# Altium schematic symbol library DOCK_ESP32_v1.0.SCHLIB: 93 symbols (part 1 of 2)
Pins are listed as number, name and electrical type; pins without a type are passive.

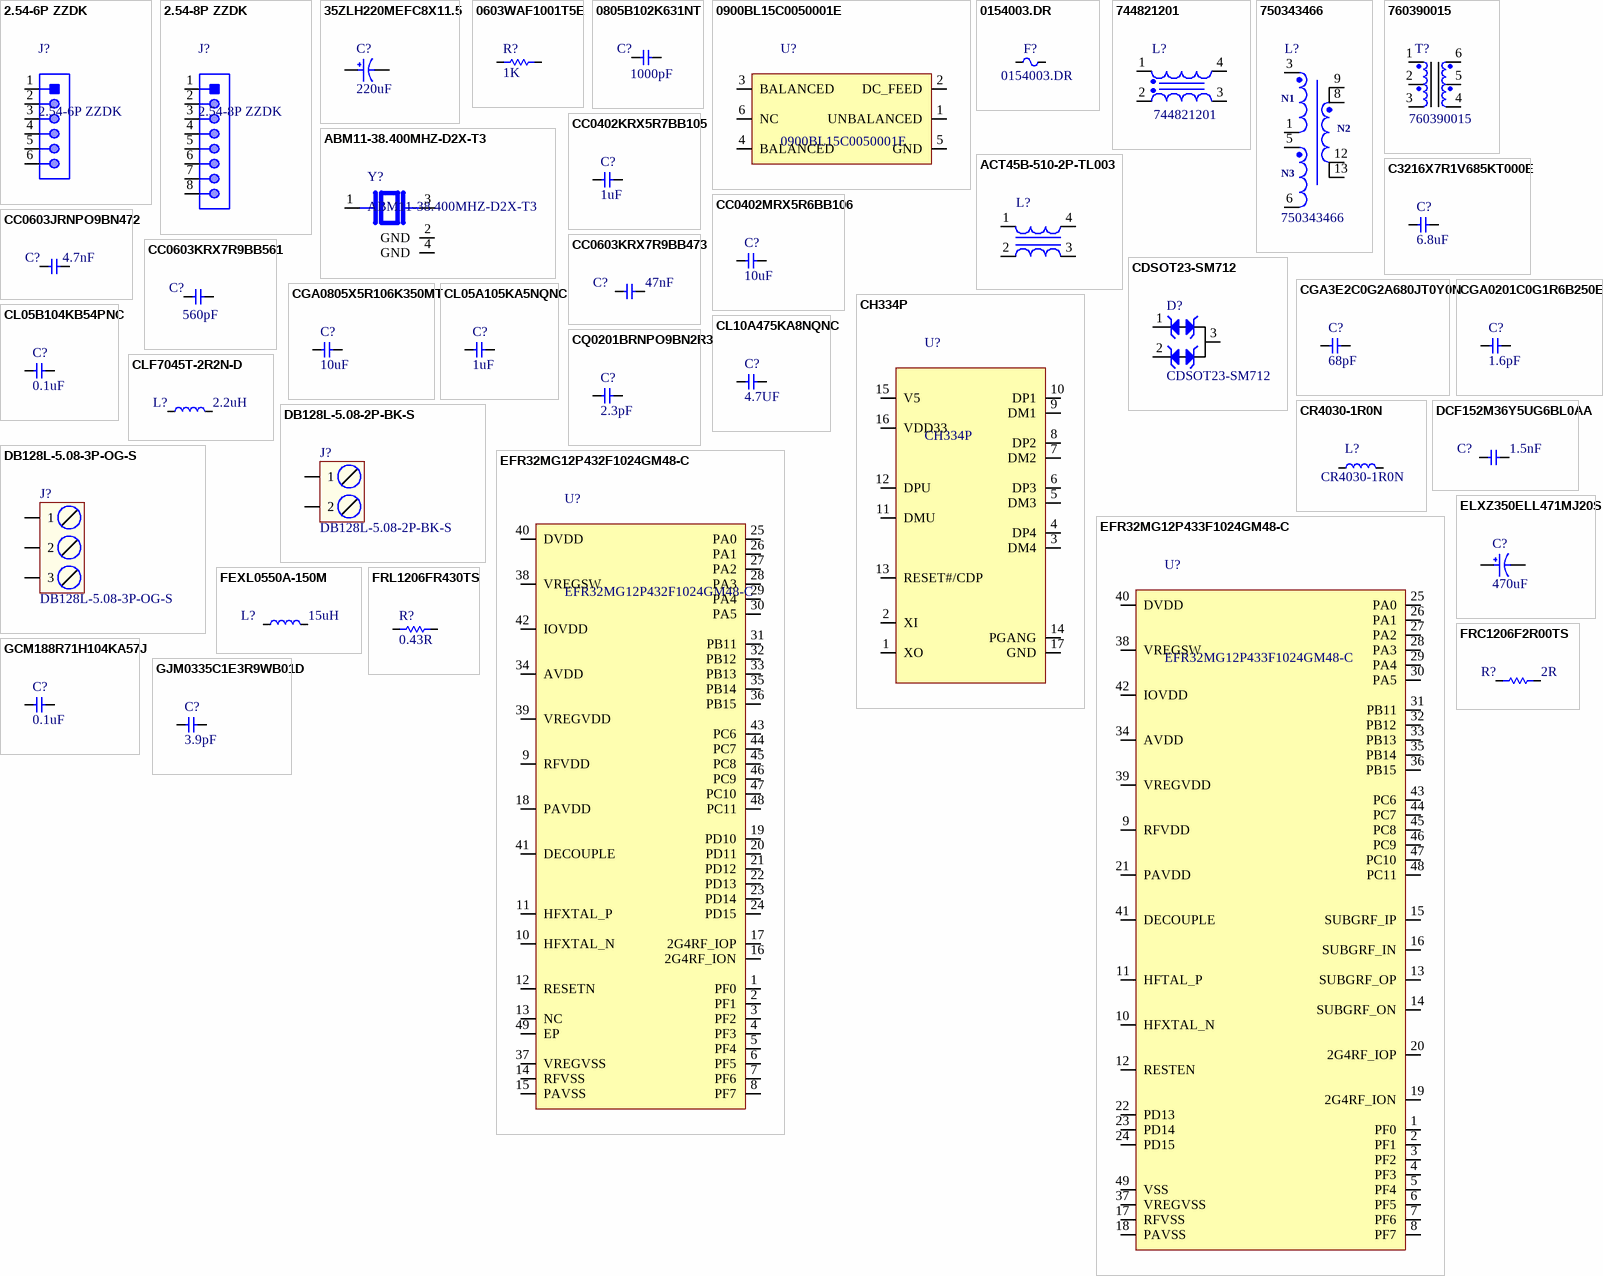
[diagram p0: symbols 2.54-6P ZZDK to GJM0335C1E3R9WB01D]

## 2.54-6P ZZDK
designator J?
CONN HEADER TH 6POS 2.5mm; Manufacturer: SHOU HAN; Manufacturer Part Number: 2.54-6P ZZDK; LCSC Part Number: C18185653
footprint 2.54-2P ZZDK
footprint 2.54-8P ZZDK
footprint 2.54-6P ZZDK
pins: 1, 2, 3, 4, 5, 6

## 2.54-8P ZZDK
designator J?
1x8P 8P XH 1 2.5mm Tin 2 -25℃~+85℃ Brass 3A Direct Insert Plugin,P=2.5mm Wire To Board Connector ROHS; Manufacturer: SHOU HAN; Manufacturer Part Number: 2.54-8P ZZDK; LCSC Part Number: C18185655
footprint 2.54-2P ZZDK
footprint 2.54-8P ZZDK
pins: 1, 2, 3, 4, 5, 6, 7, 8

## 35ZLH220MEFC8X11.5
designator C?, comment 220uF
220uF 35V 472.5mA@120Hz ±20% Plugin,D8xL11.5mm Aluminum Electrolytic Capacitors - Leaded ROHS; Manufacturer: Rubycon; Manufacturer Part Number: 35ZLH220MEFC8X11.5; Package: Plugin,D8xL11.5mm; LCSC Part Number: C107639; Item Type: Capacitor; ComponentLink1Description: LCSC; ComponentLink1URL: https://www.lcsc.com/product-detail/Aluminum-Electrolytic-Capacitors-Leaded_Rubycon-35ZLH220MEFC8X11-5_C107639.html?s_z=n_EKZE350ELL221MJC5S
footprint 35ZLH220MEFC8X11.5
pins: 1, 2

## 0603WAF1001T5E
designator R?, comment 1K
0.1W Thick Film Resistors 75V ±100ppm/℃ ±1% 1kΩ 0603 Chip Resistor - Surface Mount ROHS; Manufacturer: UNI-ROYAL(Uniroyal Elec); Manufacturer Part Number: 0603WAF1001T5E; Package: 0603; LCSC Part Number: C21190; Item Type: Resistor; ComponentLink1Description: LCSC; ComponentLink1URL: https://www.lcsc.com/product-detail/Chip-Resistor-Surface-Mount_UNI-ROYAL-Uniroyal-Elec-0603WAF1001T5E_C21190.html?s_z=n_CRCW06031K00JNEA
footprint Res-0603
pins: 1, 2

## 0805B102K631NT
designator C?, comment 1000pF
630V 1000pF X7R ±10% 0805 Multilayer Ceramic Capacitors MLCC - SMD/SMT ROHS; Manufacturer: FH (Guangdong Fenghua Advanced Tech); Manufacturer Part Number: 0805B102K631NT; Package: 0805; LCSC Part Number: C20617885; Item Type: Capacitor; ComponentLink1Description: LCSC; ComponentLink1URL: https://www.lcsc.com/product-detail/Multilayer-Ceramic-Capacitors-MLCC-SMD-SMT_FH-Guangdong-Fenghua-Advanced-Tech-0805B102K631NT_C20617885.html?s_z=n_%2520C0805C102JBRACTU
footprint Cap-0805 (SMD 0805)
pins: 1, 2

## 0900BL15C0050001E
designator U?
Signal Conditioning BALUN GSM/DCS/PCS/CDMA 900MHz,-40 to +85,0805 (2012 Metric); Manufacturer_Name: JOHANSON TECHNOLOGY; Manufacturer_Part_Number: 0900BL15C0050001E
footprint 0900BL15C0050001E
footprint 0900BL15C0050001E
pins: 1 UNBALANCED, 2 DC_FEED, 3 BALANCED, 4 BALANCED, 5 GND, 6 NC

## 0154003.DR
designator F?
FUSE BRD MNT 3A 125VAC/VDC 2SMD; Manufacturer: Littelfuse; Item Type: Fuses; Value: 22.7mR; Supplier: Digikey; LCSC Part Number: C206912; Manufacturer Part Number: 0154003.DR; RoHS: Yes; Stock: 5902; Pricing: 1=2.71, 5=2.246, 10=2.073, 50=1.7196, 100=1.5862, 250=1.425, 500=1.3135 (USD); Lead Free: 5697LeadFree; RoHS Compliant: 5897YesNo; Flammability Rating: 5813Flammability; ComponentLink1URL: https://datasheet.ciiva.com/29697/1708924-29697492.pdf?src-supplier=Jameco; ComponentLink1Description: https://datasheet.ciiva.com/29697/1708924-29697492.pdf?src-supplier=Jameco; ComponentLink2URL: https://datasheet.ciiva.com/14102/aa154xxx-data-e-14102960.pdf?src-supplier=Distrelec; ComponentLink2Description: https://datasheet.ciiva.com/14102/aa154xxx-data-e-14102960.pdf?src-supplier=Distrelec; ComponentLink3URL: https://datasheet.ciiva.com/28499/88932-28499727.pdf?src-supplier=Element14; ComponentLink3Description: https://datasheet.ciiva.com/28499/88932-28499727.pdf?src-supplier=Element14; ComponentLink4URL: https://datasheet.ciiva.com/1268/154-1268659.pdf?src-supplier=Element14; ComponentLink4Description: https://datasheet.ciiva.com/1268/154-1268659.pdf?src-supplier=Element14
footprint 0154003.DR
pins: 1, 2

## 744821201
designator L?
CMC 1MH 2A 2LN TH; Manufacturer: Wurth Electronics; Item Type: Fixed Inductors; Supplier: Mouser; Supplier Part Number: 710-744821201; Manufacturer Part Number: 744821201; RoHS: Yes; Stock: 341; Pricing: 1=3.6, 10=3.33, 50=2.98, 100=2.62, 1000=2.34, 10000=2.34 (USD); ComponentLink1URL: https://datasheet.ciiva.com/4952/744821201-87450-4952378.pdf?src-supplier=Mouser; ComponentLink1Description: https://datasheet.ciiva.com/4952/744821201-87450-4952378.pdf?src-supplier=Mouser; ComponentLink2URL: https://datasheet.ciiva.com/1008/744821201-1008592.pdf?src-supplier=Digikey; ComponentLink2Description: https://datasheet.ciiva.com/1008/744821201-1008592.pdf?src-supplier=Digikey; ComponentLink3URL: https://datasheet.ciiva.com/11796/0900766b804ac268-11796620.pdf?src-supplier=Rs; ComponentLink3Description: https://datasheet.ciiva.com/11796/0900766b804ac268-11796620.pdf?src-supplier=Rs; ComponentLink4URL: https://datasheet.ciiva.com/7211/70377-7211245.pdf?src-supplier=Newark; ComponentLink4Description: https://datasheet.ciiva.com/7211/70377-7211245.pdf?src-supplier=Newark; ComponentLink5URL: https://datasheet.ciiva.com/7892/1736513-7892972.pdf?src-supplier=Element14; ComponentLink5Description: https://datasheet.ciiva.com/7892/1736513-7892972.pdf?src-supplier=Element14; ComponentLink6URL: https://datasheet.ciiva.com/14124/to744821201-data-de-14124987.pdf?src-supplier=Distrelec; ComponentLink6Description: https://datasheet.ciiva.com/14124/to744821201-data-de-14124987.pdf?src-supplier=Distrelec
footprint 744821201
pins: 1, 2, 3, 4

## 750343466
designator L?
XFMR FLYBACK AC/DC CONV 280UH TH; Manufacturer: Wurth Electronics; Item Type: Transformer; Supplier: Digikey; Supplier Part Number: 1297-750343466-ND; Manufacturer Part Number: 750343466; RoHS: Yes; Stock: 112; Pricing: 1=7.36, 10=6.646, 25=6.3768, 70=6.08471, 140=5.89457, 280=5.70964, 490=5.56402, 980=5.38821 (USD); RoHS Compliant: Yes
footprint 750343466
pins: 1, 3, 5, 6, 8, 9, 12, 13
text: N1; N2; N3

## 760390015
designator T?
TRANSFORMER 475UH SMD; Manufacturer: Wurth Electronics; Frequency: 10kHz; Current Rating: 150mA; Isolation Voltage: 2.5kV; Supplier: Rs; Supplier Part Number: 1828986P; Manufacturer Part Number: 760390015; RoHS: Yes; Category: Transformers; Stock: 435; Pricing: 25=1.438, 100=1.36, 250=1.312, 500=1.226 (GBP); Mounting Technology: Surface Mount; Case/Package: SMD/SMT; Min Operating Temperature: -40°C; Max Operating Temperature: 125°C; Package Quantity: 1; Packaging: Tape and Reel; Termination: SMD/SMT; Value: 475uH; Series: WE-PP; Max DC Current: 150mA; Length: 10.05mm; Width: 10.05mm; Height: 4.19mm; Height - Seated (Max): 4.19mm; RoHS Compliant: Yes; ComponentLink1URL: https://datasheet.ciiva.com/12335/760390015-221218-12335392.pdf?src-supplier=Mouser; ComponentLink1Description: https://datasheet.ciiva.com/12335/760390015-221218-12335392.pdf?src-supplier=Mouser; Item Type: TRANSFORMER
footprint 760390015
pins: 1, 2, 3, 4, 5, 6

## ABM11-38.400MHZ-D2X-T3
designator Y?
CRYSTAL, 38.4MHZ, 10PF, SMD, 2MM X 1.6MM; MF: Abracon LLC; Value: ABM11-38.400MHZ-D2X-T3; MP: ABM11-38.400MHZ-D2X-T3
footprint XTAL_ABM11-38.400MHZ-D2X-T3
footprint XTAL_ABM11-38.400MHZ-D2X-T3
pins: 1, 2 GND (power), 3 2, 4 GND (power)

## ACT45B-510-2P-TL003
designator L?  (value not drawn)
CMC 51UH 200MA 2LN 2.8KOHM SMD; Manufacturer: TDK; Impedance: 2.8kR; Voltage Rating (DC): 50V; Number of Lines: 2; Tolerance: 50%; DC Resistance (DCR): 1R; Test Frequency: 10MHz; Insulation Resistance: 10MR; Item Type: Common Mode Filter; Supplier: Arrow Electronics; Supplier Part Number: ACT45B-510-2P-TL003; Manufacturer Part Number: ACT45B-510-2P-TL003; RoHS: Yes; Category: Fixed Inductors; Stock: 390000; Pricing: 2500=0.8915, 5000=0.8612, 10000=0.8526 (USD); Mounting Technology: Surface Mount; Case/Package: 1812; Pins: 4; Case Code (Imperial): 1812; Min Operating Temperature: -40°C; Max Operating Temperature: 150°C; Packaging: Tape and Reel; Value: 51uH; Current Rating: 200mA; Package Quantity: 2000; Voltage Rating: 50V; Max DC Current: 200mA; Termination: SMD/SMT; DC Current: 200mA; Series: ACT; DC Resistance-Max: 1R; Max Current Rating: 200mA; Length: 4.5mm; Width: 3.2mm; Height: 3mm; Depth: 3.4mm; Ratings: AEC-Q200; Radiation Hardening: No; Reach SVHC Compliant: No; Military Standard: Not; RoHS Compliant: Yes; Lead Free: 5697LeadFree; ComponentLink1URL: https://datasheet.ciiva.com/22726/1649098-22726290.pdf?src-supplier=Element14; ComponentLink1Description: https://datasheet.ciiva.com/22726/1649098-22726290.pdf?src-supplier=Element14; ComponentLink2URL: https://datasheet.ciiva.com/1007/e9711-act-1007931.pdf?src-supplier=Digikey; ComponentLink2Description: https://datasheet.ciiva.com/1007/e9711-act-1007931.pdf?src-supplier=Digikey; ComponentLink3URL: https://datasheet.ciiva.com/1007/e9711-act-1007933.pdf?src-supplier=Digikey; ComponentLink3Description: https://datasheet.ciiva.com/1007/e9711-act-1007933.pdf?src-supplier=Digikey; ComponentLink4URL: https://datasheet.ciiva.com/8498/e9711-act-8498633.pdf?src-supplier=Avnet; ComponentLink4Description: https://datasheet.ciiva.com/8498/e9711-act-8498633.pdf?src-supplier=Avnet; ComponentLink5URL: https://datasheet.ciiva.com/7649/1833202-7649183.pdf?src-supplier=Element14; ComponentLink5Description: https://datasheet.ciiva.com/7649/1833202-7649183.pdf?src-supplier=Element14; ComponentLink6URL: https://datasheet.ciiva.com/1007/e9711-act-1007932.pdf?src-supplier=Digikey; ComponentLink6Description: https://datasheet.ciiva.com/1007/e9711-act-1007932.pdf?src-supplier=Digikey; ComponentLink7URL: https://datasheet.ciiva.com/15191/getdatasheetpartid-349822-15191803.pdf?src-supplier=Verical; ComponentLink7Description: https://datasheet.ciiva.com/15191/getdatasheetpartid-349822-15191803.pdf?src-supplier=Verical; LCSC Part Number: C76584
footprint ACT45B-510-2P-TL003
pins: 1, 2, 3, 4

## C3216X7R1V685KT000E
designator C?, comment 6.8uF
CAP CER 6.8UF 35V X7R 1206; Manufacturer: TDK Corporation; Manufacturer Part Number: C3216X7R1V685K160AC; Item Type: Capacitor; Package: 1206; LCSC Part Number: C342646; ComponentLink1Description: LCSC; ComponentLink1URL: https://www.lcsc.com/product-detail/Multilayer-Ceramic-Capacitors-MLCC-SMD-SMT_TDK-C3216X7R1V685KT000E_C342646.html?s_z=n_C2012X5R1V685K125AC
footprint Cap-1206 (SMD 1206)
pins: 1, 2

## CC0402KRX5R7BB105
designator C?, comment 1uF
CAP CER 1UF 16V X5R 0402; Manufacturer: Yageo; Manufacturer Part Number: CC0402KRX5R7BB105; Tolerance: 10%; Item Type: Capacitor; Supplier 1: Digi-Key; Stock 1: 1405667; Pricing 1: 1=0.36, 10=0.252, 100=0.1512, 500=0.1134, 1000=0.09576, 2500=0.09072, 5000=0.08568 (USD); Mount: Surface Mount; Case/Package: 0402; Weight: 2.3E-05oz; Case Code (Imperial): 0402; Case Code (Metric): 1005; Min Operating Temperature: -55°C; Max Operating Temperature: 85°C; Capacitance: 1uF; Dielectric: X5R; Packaging: Tape and Reel; Voltage Rating (DC): 16V; Voltage Rating: 16V; Termination: SMD/SMT; Composition: Ceramic; Length: 1mm; Height: 0.5mm; Width: 0.02inch; Thickness: 0.022inch; Depth: 0.5mm; Radiation Hardening: No; Lead Free: Lead Free; Halogen Free: Halogen Free; ComponentLink1URL: http://www.yageo.com/documents/recent/UPY-GPHC_X5R_4V-to-50V_12.pdf?src-supplier=Avnet+Europe; ComponentLink1Description: http://www.yageo.com/documents/recent/UPY-GPHC_X5R_4V-to-50V_12.pdf?src-supplier=Avnet+Europe; Supplier Part Number 1: 311-1691-6-ND; LCSC Part Number: C325464
footprint Cap-0402
pins: 1, 2

## CC0402MRX5R6BB106
designator C?, comment 10uF
CAP CER 10UF 10V X5R 0402; Manufacturer: Yageo; Manufacturer Part Number: CC0402MRX5R6BB106; Tolerance: 20%; Item Type: Capacitor; Supplier 1: Future Electronics; RoHS: Yes; Category: Ceramic Capacitors; Stock 1: 80000; Pricing 1: 10000=0.02650, 20000=0.02590, 30000=0.02550, 40000=0.02530, 50000=0.02450 (USD); Mount: Surface Mount; Case/Package: 0402; Case Code (Imperial): 0402; Case Code (Metric): 1005; Min Operating Temperature: -55°C; Max Operating Temperature: 85°C; Packaging: Tape and Reel; Capacitance: 10uF; Voltage Rating: 10V; RoHS Compliant: Yes; ComponentLink1URL: http://www.yageo.com/documents/recent/UPY-GPHC_X5R_4V-to-50V_25.pdf?src-supplier=Digi-Key; ComponentLink1Description: http://www.yageo.com/documents/recent/UPY-GPHC_X5R_4V-to-50V_25.pdf?src-supplier=Digi-Key; Supplier Part Number 1: 6097631; LCSC Part Number: C962143
footprint Cap-0402
pins: 1, 2

## CC0603JRNPO9BN472
designator C?, comment 4.7nF
CAP CER 4700PF 50V C0G/NPO 0603; Manufacturer: Yageo; Manufacturer Part Number: CC0603JRNPO9BN472; Item Type: Capacitor; Supplier 1: Digi-Key; RoHS: Yes; Category: Ceramic Capacitors; Stock 1: 31779; Pricing 1: 1=0.48000, 10=0.33000, 50=0.23100, 100=0.19800, 500=0.14854, 1000=0.12543 (USD); RoHS Compliant: Yes; Supplier Part Number 1: 13-CC0603JRNPO9BN472CT-ND; LCSC Part Number: C576818; ComponentLink1Description: LCSC; ComponentLink1URL: https://www.lcsc.com/product-detail/Multilayer-Ceramic-Capacitors-MLCC-SMD-SMT_YAGEO-CC0603JRNPO9BN472_C576818.html
footprint Cap-0603
pins: 1, 2

## CC0603KRX7R9BB473
designator C?, comment 47nF
CAP CER 0.047UF 50V X7R 0603; Manufacturer: Yageo; Manufacturer Part Number: CC0603KRX7R9BB473; Item Type: Capacitors; Material: 4241ConductorMaterial; Supplier: Future Electronics; LCSC Part Number: C107093; RoHS: Yes; Stock: 2716000; Pricing: 4000=0.003, 16000=0.0029, 60000=0.0028, 160000=0.0027, 400000=0.0026 (USD); Lead Free: 5697LeadFree; Halogen Free: 5694HalogenFree; ComponentLink1URL: https://datasheet.ciiva.com/26862/getdatasheetpartid-403593-26862863.pdf?src-supplier=Verical; ComponentLink1Description: https://datasheet.ciiva.com/26862/getdatasheetpartid-403593-26862863.pdf?src-supplier=Verical; ComponentLink2URL: https://datasheet.ciiva.com/11786/0900766b80d84f1d-11786072.pdf?src-supplier=Rs; ComponentLink2Description: https://datasheet.ciiva.com/11786/0900766b80d84f1d-11786072.pdf?src-supplier=Rs; ComponentLink3URL: https://datasheet.ciiva.com/176/mlccorderingcode-176544.pdf?src-supplier=Digikey; ComponentLink3Description: https://datasheet.ciiva.com/176/mlccorderingcode-176544.pdf?src-supplier=Digikey; ComponentLink4URL: https://datasheet.ciiva.com/176/mlccorderingcode-176545.pdf?src-supplier=Digikey; ComponentLink4Description: https://datasheet.ciiva.com/176/mlccorderingcode-176545.pdf?src-supplier=Digikey; ComponentLink5URL: https://datasheet.ciiva.com/176/mlccorderingcode-176546.pdf?src-supplier=Digikey; ComponentLink5Description: https://datasheet.ciiva.com/176/mlccorderingcode-176546.pdf?src-supplier=Digikey; ComponentLink6URL: https://datasheet.ciiva.com/28450/1489800-28450670.pdf?src-supplier=Element14; ComponentLink6Description: https://datasheet.ciiva.com/28450/1489800-28450670.pdf?src-supplier=Element14
footprint Cap-0603
pins: 1, 2

## CC0603KRX7R9BB561
designator C?, comment 560pF
CAP CER 560PF 50V X7R 0603; Manufacturer: Yageo; Manufacturer Part Number: CC0603KRX7R9BB561; Item Type: Capacitors; Material: 4241ConductorMaterial; Insulation Resistance: 100GR; Supplier: Digikey; LCSC Part Number: C107094; RoHS: Yes; Stock: 209062; Pricing: 1=0.1, 10=0.035, 100=0.0204, 1000=0.01285 (USD); Dielectric Material: 4241ConductorMaterial; Voltage Rating (AC): 50V; Lead Free: 5697LeadFree; Halogen Free: 5694HalogenFree; ComponentLink1URL: https://datasheet.ciiva.com/8033/1489800-8033866.pdf?src-supplier=Element14; ComponentLink1Description: https://datasheet.ciiva.com/8033/1489800-8033866.pdf?src-supplier=Element14; ComponentLink2URL: https://datasheet.ciiva.com/144/mlccorderingcode-144466.pdf?src-supplier=Digikey; ComponentLink2Description: https://datasheet.ciiva.com/144/mlccorderingcode-144466.pdf?src-supplier=Digikey; ComponentLink3URL: https://datasheet.ciiva.com/144/mlccorderingcode-144467.pdf?src-supplier=Digikey; ComponentLink3Description: https://datasheet.ciiva.com/144/mlccorderingcode-144467.pdf?src-supplier=Digikey; ComponentLink4URL: https://datasheet.ciiva.com/144/mlccorderingcode-144468.pdf?src-supplier=Digikey; ComponentLink4Description: https://datasheet.ciiva.com/144/mlccorderingcode-144468.pdf?src-supplier=Digikey; ComponentLink5URL: https://datasheet.ciiva.com/11465/upy-gphc-x7r-6-3v-to-50v-8-11465256.pdf?src-supplier=Avnet; ComponentLink5Description: https://datasheet.ciiva.com/11465/upy-gphc-x7r-6-3v-to-50v-8-11465256.pdf?src-supplier=Avnet
footprint Cap-0603
pins: 1, 2

## CDSOT23-SM712
designator D?
TVS DIODE 7V/12V 14V/26V SOT23-3; Manufacturer: Bourns; Direction: Bidirectional; Value: 75pF; Max Surge Current: 30A; Polarity: Bidirectional,Unidirectional; Number of Channels: 2; Breakdown Voltage: 13.3V; Clamping Voltage: 19V; Working Voltage: 12V; Min Breakdown Voltage: 7.5V; Power Line Protection: No; Leakage Current: 20uA; Peak Pulse Current: 17A; Diode Type: ZENER; Max Power Dissipation: 600W; Peak Pulse Power: 400W; ESD Protection: Yes; Test Current: 1mA; Item Type: Surge Protection (TVS/ESD); Supplier: Rs; Supplier Part Number: 7673728P; Manufacturer Part Number: CDSOT23-SM712; RoHS: Yes; Category: TVS Diodes; Stock: 89660; Pricing: 100=0.935, 1500=0.651, 3000=0.565, 6000=0.553 (GBP); Mounting Technology: Surface Mount; Case/Package: SOT-23; Pins: 3; Contact Plating: Tin; Min Operating Temperature: -55°C; Max Operating Temperature: 150°C; Packaging: Tape and Reel; Series: -; Termination: SMD/SMT; Reverse Standoff Voltage: 12V; Number of Elements: 2; Reverse Breakdown Voltage: 13.3V; Number of Bidirectional Channels: 2; Power Dissipation: 400W; Max Reverse Leakage Current: 20uA; Max Breakdown Voltage: 13.3V; Length: 3.04mm; Width: 0.055inch; Height: 1.11mm; Depth: 1.4mm; Radiation Hardening: No; Reach SVHC Compliant: No; RoHS Compliant: Yes; ComponentLink1URL: https://datasheet.ciiva.com/1281/1670933-1281331.pdf?src-supplier=Farnell; ComponentLink1Description: https://datasheet.ciiva.com/1281/1670933-1281331.pdf?src-supplier=Farnell; ComponentLink2URL: https://datasheet.ciiva.com/4510/cdsot23-sm712-25932-4510261.pdf?src-supplier=Mouser; ComponentLink2Description: https://datasheet.ciiva.com/4510/cdsot23-sm712-25932-4510261.pdf?src-supplier=Mouser; ComponentLink3URL: https://datasheet.ciiva.com/11193/cdsot23-sm712-11193846.pdf?src-supplier=Avnet; ComponentLink3Description: https://datasheet.ciiva.com/11193/cdsot23-sm712-11193846.pdf?src-supplier=Avnet; ComponentLink4URL: https://datasheet.ciiva.com/22696/1670933-22696779.pdf?src-supplier=Element14; ComponentLink4Description: https://datasheet.ciiva.com/22696/1670933-22696779.pdf?src-supplier=Element14; ComponentLink5URL: https://datasheet.ciiva.com/26828/getdatasheetpartid-418501-26828522.pdf?src-supplier=Verical; ComponentLink5Description: https://datasheet.ciiva.com/26828/getdatasheetpartid-418501-26828522.pdf?src-supplier=Verical; ComponentLink6URL: https://datasheet.ciiva.com/337/cdsot23-sm712-337451.pdf?src-supplier=Digikey; ComponentLink6Description: https://datasheet.ciiva.com/337/cdsot23-sm712-337451.pdf?src-supplier=Digikey; ComponentLink7URL: https://datasheet.ciiva.com/337/cdsot23-sm712-337452.pdf?src-supplier=Digikey; ComponentLink7Description: https://datasheet.ciiva.com/337/cdsot23-sm712-337452.pdf?src-supplier=Digikey; LCSC Part Number: C404012
footprint SOT-23 (TRANS NPN 40V 0.6A SOT23)
pins: 1 K, 2 K, 3 K

## CGA3E2C0G2A680JT0Y0N
designator C?, comment 68pF
CAP CER 68PF 100V C0G 0603; Manufacturer: CGA3E2C0G2A680J080AA; Manufacturer Part Number: CGA3E2C0G2A680JT0Y0N; Item Type: Capacitor; Package: 0603; LCSC Part Number: C694224
footprint Cap-0603
pins: 1, 2

## CGA0201C0G1R6B250ET
designator C?, comment 1.6pF
1.6pF 25V Ceramic Capacitor C0G 0201; Manufacturer: HRE; Manufacturer Part Number: CGA0201C0G1R6B250ET; LCSC Part Number: C42437899
footprint CAP-0201
pins: 1, 2

## CGA0805X5R106K350MT
designator C?, comment 10uF
35V 10uF X5R ±10% 0805 Multilayer Ceramic Capacitors MLCC - SMD/SMT ROHS; Manufacturer: HRE; Manufacturer Part Number: CGA0805X5R106K350MT; Package: 0805; LCSC Part Number: C6119888; Item Type: Capacitor; ComponentLink1Description: LCSC; ComponentLink1URL: https://www.lcsc.com/product-detail/Multilayer-Ceramic-Capacitors-MLCC-SMD-SMT_HRE-CGA0805X5R106K350MT_C6119888.html?s_z=n_C2012X5R1V106K085AC
footprint Cap-0805 (SMD 0805)
pins: 1, 2

## CH334P
designator U?
480Mbps Hub USB 2.0 QFN-16(3x3) Interface Controllers RoHS; Manufacturer_Name: WCH; Manufacturer_Part_Number: CH334P; LCSC Part Number: C5373042
footprint QFN50P400X400X100-25N-D
footprint QFN-16
pins: 1 XO, 2 XI, 3 DM4, 4 DP4, 5 DM3, 6 DP3, 7 DM2, 8 DP2, 9 DM1, 10 DP1, 11 DMU, 12 DPU, 13 RESET#/CDP, 14 PGANG, 15 V5, 16 VDD33, 17 GND

## CL05A105KA5NQNC
designator C?, comment 1uF
CAP CER 1UF 25V X5R 0402; Manufacturer: Samsung; Manufacturer Part Number: CL05A105KA5NQNC; Material: Ceramic; Tolerance: 10%; Item Type: Capacitor; Supplier 1: Arrow Electronics; RoHS: Yes; Category: Ceramic Capacitors; Stock 1: 80000; Pricing 1: 10000=0.0256, 20000=0.0238, 30000=0.0228, 50000=0.0207, 100000=0.0175, 250000=0.0157 (USD); Mounting Technology: Surface Mount; Case/Package: 0402; Case Code (Metric): 1005; Case Code (Imperial): 0402; Min Operating Temperature: -55°C; Max Operating Temperature: 85°C; Package Quantity: 10000; Series: CL; Voltage Rating: 25V; Packaging: Tape and Reel; Construction: Flat; Value: 1uF; Dielectric: X5R; Length: 1mm; Width: 0.02inch; Height: 0.5mm; Depth: 0.5mm; Thickness: 0.022inch; Radiation Hardening: No; Lead Free: Lead Free; RoHS Compliant: Yes; ComponentLink1URL: https://datasheet.ciiva.com/25720/cl05a105ka5nqnc-25720771.pdf?src-supplier=Digi-Key; ComponentLink1Description: https://datasheet.ciiva.com/25720/cl05a105ka5nqnc-25720771.pdf?src-supplier=Digi-Key; ComponentLink2URL: https://datasheet.ciiva.com/3777/cl05a105ka5nqnc-3777709.pdf?src-supplier=Arrow+Electronics; ComponentLink2Description: https://datasheet.ciiva.com/3777/cl05a105ka5nqnc-3777709.pdf?src-supplier=Arrow+Electronics; ComponentLink3URL: https://datasheet.ciiva.com/29198/459147-da-01-en-vs-kondensator-0402-29198339.pdf?src-supplier=Conrad; ComponentLink3Description: https://datasheet.ciiva.com/29198/459147-da-01-en-vs-kondensator-0402-29198339.pdf?src-supplier=Conrad; Supplier Part Number 1: CL05A105KA5NQNC; LCSC Part Number: C52923
footprint Cap-0402
pins: 1, 2

## CL05B104KB54PNC
designator C?, comment 0.1uF
CAP CER 0.1UF 50V X7R 0402; Manufacturer: Samsung; Manufacturer Part Number: CL05B104KB54PNC; Supplier 1: Digi-Key; Stock 1: 8594; Pricing 1: 1=0.1, 10=0.067, 50=0.0366, 100=0.0299, 500=0.02138, 1000=0.01681, 2500=0.01528, 5000=0.01406 (USD); Supplier Part Number 1: 1276-CL05B104KB54PNCDKR-ND; LCSC Part Number: C307331
footprint Cap-0402
pins: 1, 2

## CL10A475KA8NQNC
designator C?, comment 4.7UF
CAP CER 4.7UF 25V X5R 0603; Manufacturer: Samsung; Manufacturer Part Number: CL10A475KA8NQNC; Tolerance: 10%; Supplier 1: Digi-Key; Stock 1: 2252340; Pricing 1: 1=0.37, 10=0.255, 100=0.1528, 500=0.11456, 1000=0.09675 (USD); Mount: Surface Mount; Case/Package: 0603; Case Code (Metric): 1608; Case Code (Imperial): 0603; Contact Plating: Tin; Min Operating Temperature: -55°C; Max Operating Temperature: 85°C; Package Quantity: 1; Packaging: Tape and Reel; Capacitance: 4.7uF; Voltage Rating: 25V; Dielectric: X5R; Termination: Wraparound; Length: 1.6mm; Width: 0.031inch; Thickness: 0.035inch; Depth: 0.8mm; Lead Free: Lead Free; ComponentLink1URL: http://www.samsungsem.com/kr/support/product-search/mlcc/CL10A475KA8NQNC.jsp?src-supplier=Digi-Key; ComponentLink1Description: http://www.samsungsem.com/kr/support/product-search/mlcc/CL10A475KA8NQNC.jsp?src-supplier=Digi-Key; Supplier Part Number 1: 1276-1900-1-ND; LCSC Part Number: C69335
footprint Cap-0603
pins: 1, 2

## CLF7045T-2R2N-D
designator L?, comment 2.2uH
FIXED IND 2.2UH 4.3A 18.98 MOHM; Manufacturer: TDK; Manufacturer Part Number: CLF7045T-2R2N-D; Item Type: Inductor; Supplier: Arrow Electronics; Supplier Part Number: CLF7045T-2R2N-D; RoHS: Yes; Category: Fixed Inductors; Stock: 1021; Pricing: 1=0.5089, 10=0.502, 25=0.4797, 100=0.467, 250=0.4651, 500=0.4631, 1000=0.4612 (USD); ComponentLink1URL: https://datasheet.ciiva.com/30489/0900766b8129d3e9-30489231.pdf?src-supplier=Rs; ComponentLink1Description: https://datasheet.ciiva.com/30489/0900766b8129d3e9-30489231.pdf?src-supplier=Rs; ComponentLink2URL: https://datasheet.ciiva.com/15026/e531-clf-d-15026965.pdf?src-supplier=Digikey; ComponentLink2Description: https://datasheet.ciiva.com/15026/e531-clf-d-15026965.pdf?src-supplier=Digikey; ComponentLink3URL: https://datasheet.ciiva.com/15026/e531-clf-d-15026966.pdf?src-supplier=Digikey; ComponentLink3Description: https://datasheet.ciiva.com/15026/e531-clf-d-15026966.pdf?src-supplier=Digikey; ComponentLink4URL: https://datasheet.ciiva.com/15026/e531-clf-d-15026967.pdf?src-supplier=Digikey; ComponentLink4Description: https://datasheet.ciiva.com/15026/e531-clf-d-15026967.pdf?src-supplier=Digikey; LCSC Part Number: C474321
footprint CLF7045T-2R2N-D
pins: 1, 2

## CQ0201BRNPO9BN2R3
designator C?, comment 2.3pF
2.3pF 50V Ceramic Capacitor C0G 0201; Manufacturer: YAGEO; Manufacturer Part Number: CQ0201BRNPO9BN2R3; LCSC Part Number: C3892199
footprint CAP-0201
pins: 1, 2

## CR4030-1R0N
designator L?
3.4A 1uH ±30% 5.9A SMD,4x4mm Power Inductors ROHS; Manufacturer: Ceaiya; Manufacturer Part Number: CR4030-1R0N; Package: SMD,4x4mm; LCSC Part Number: C520322; Item Type: Inductor; ComponentLink1Description: LCSC; ComponentLink1URL: https://www.lcsc.com/product-detail/Power-Inductors_Ceaiya-CR4030-1R0N_C520322.html?s_z=n_B82462G4102M
footprint CR4030-1R0N
pins: 1, 2

## DB128L-5.08-2P-BK-S
designator J?
1x2P 18A -40℃~+105℃ 250V Black 12~30 Straight pin 5.08mm 2.5 1 2 Plugin,P=5.08mm Screw terminal ROHS; Manufacturer: DIBO; Item Type: Terminal Block; Manufacturer Part Number: DB128L-5.08-2P-BK-S; Package: Plugin,P=5.08mm; LCSC Part Number: C430601; ComponentLink1Description: LCSC; ComponentLink1URL: https://www.lcsc.com/product-detail/Screw-terminal_span-style-background-color-ff0-DIBO-span-DB128L-5-08-2P-BK-S_C430601.html
footprint DB128L-5.08-2P-BK-S
pins: 1, 2

## DB128L-5.08-3P-OG-S
designator J?
1x3P 18A -40℃~+105℃ 250V Orange 12~30 Direct Insert 5.08mm 2.5 1 3 Plugin,P=5.08mm Screw Terminal Blocks ROHS; Manufacturer: DORABO; Manufacturer Part Number: DB128L-5.08-3P-OG-S; Package: Plugin,P=5.08mm; LCSC Part Number: C430604; Item Type: Terminal Block; ComponentLink1Description: LCSC; ComponentLink1URL: https://www.lcsc.com/product-detail/Screw-Terminal-Blocks_DORABO-DB128L-5-08-3P-OG-S_C430604.html
footprint DB128L-5.08-3P-OG-S
pins: 1, 2, 3

## DCF152M36Y5UG6BL0AA
designator C?, comment 1.5nF
1.5nF ±20% X1,Y1 Plugin,P=10mm Safety Capacitors ROHS; Manufacturer: SHM; Manufacturer Part Number: DCF152M36Y5UG6BL0AA; Package: Plugin,P=10mm; LCSC Part Number: C2919099; Item Type: Capacitor; ComponentLink1Description: LCSC; ComponentLink1URL: https://www.lcsc.com/product-detail/Safety-Capacitors_SHM-DCF152M36Y5UG6BL0AA_C2919099.html?s_z=n_DE2E3KY152MN3AM02F
footprint DCF152M36Y5UG6BL0AA
pins: 1, 2

## EFR32MG12P432F1024GM48-C
designator U?
RF System on a Chip - SoC Mighty Gecko SoC QFN48 2.4 G 19 dB mesh multi-protocol 1024 kB 256 kB (RAM) 31GPIO; Manufacturer_Name: Silicon Labs; Mouser Part Number: 634-MG12P432GM48-C; Manufacturer_Part_Number: EFR32MG12P432F1024GM48-C
footprint QFN50P700X700X90-49N-D
footprint QFN50P700X700X90-49N-D
pins: 1 PF0, 2 PF1, 3 PF2, 4 PF3, 5 PF4, 6 PF5, 7 PF6, 8 PF7, 9 RFVDD, 10 HFXTAL_N, 11 HFXTAL_P, 12 RESETN, 13 NC, 14 RFVSS, 15 PAVSS, 16 2G4RF_ION, 17 2G4RF_IOP, 18 PAVDD, 19 PD10, 20 PD11, 21 PD12, 22 PD13, 23 PD14, 24 PD15, 25 PA0, 26 PA1, 27 PA2, 28 PA3, 29 PA4, 30 PA5, 31 PB11, 32 PB12, 33 PB13, 34 AVDD, 35 PB14, 36 PB15, 37 VREGVSS, 38 VREGSW, 39 VREGVDD, 40 DVDD, 41 DECOUPLE, 42 IOVDD, 43 PC6, 44 PC7, 45 PC8, 46 PC9, 47 PC10, 48 PC11, 49 EP

## EFR32MG12P433F1024GM48-C
designator U?
RF System on a Chip - SoC Mighty Gecko SoC QFN48 dual 19 dB mesh multi-protocol 1024 kB 256 kB (RAM) 31GPIO; Manufacturer_Name: Silicon Labs; Mouser Part Number: 634-MG12P433GM48-C; Manufacturer_Part_Number: EFR32MG12P433F1024GM48-C
footprint QFN50P700X700X90-49N-D
pins: 1 PF0, 2 PF1, 3 PF2, 4 PF3, 5 PF4, 6 PF5, 7 PF6, 8 PF7, 9 RFVDD, 10 HFXTAL_N, 11 HFTAL_P, 12 RESTEN, 13 SUBGRF_OP, 14 SUBGRF_ON, 15 SUBGRF_IP, 16 SUBGRF_IN, 17 RFVSS, 18 PAVSS, 19 2G4RF_ION, 20 2G4RF_IOP, 21 PAVDD, 22 PD13, 23 PD14, 24 PD15, 25 PA0, 26 PA1, 27 PA2, 28 PA3, 29 PA4, 30 PA5, 31 PB11, 32 PB12, 33 PB13, 34 AVDD, 35 PB14, 36 PB15, 37 VREGVSS, 38 VREGSW, 39 VREGVDD, 40 DVDD, 41 DECOUPLE, 42 IOVDD, 43 PC6, 44 PC7, 45 PC8, 46 PC9, 47 PC10, 48 PC11, 49 VSS

## ELXZ350ELL471MJ20S
designator C?, comment 470uF
CAP ALUM 470UF 20% 35V RADIAL; Item Type: Capacitor; Dielectric Material: Aluminium; Ripple Current: 1.22A; ESR (Equivalent Series Resistance): 52mR; Life (Hours): 5000Hour; Lead Diameter: 0.6mm; LCSC Part Number: C1669323; ComponentLink1Description: LCSC; Supplier: Rs; Supplier Part Number: 390120; RoHS: Yes; Category: Aluminum Electrolytic Capacitors; Stock: 615; Pricing: 5=0.094, 25=0.54, 50=0.512, 100=0.488, 250=0.476 (GBP); Mounting Technology: Through Hole; Case/Package: Radial; Min Operating Temperature: -55°C; Max Operating Temperature: 105°C; Value: 470uF; Tolerance: 20%; Voltage Rating: 35V; Package Quantity: 2000; Packaging: Bulk; Impedance: 52mR; Termination: Radial; Voltage Rating (DC): 35V; Series: LXZ; Construction: RADIAL; Diameter: 10mm; Length: 20mm; Height: 20mm; Lead Pitch: 5mm; Ratings: AEC-Q200; Radiation Hardening: No; Lead Free: Lead Free; RoHS Compliant: Yes; Reach SVHC Compliant: Unknown; ComponentLink2URL: https://datasheet.ciiva.com/15165/getdatasheetpartid-102547-15165912.pdf?src-supplier=Verical; ComponentLink2Description: https://datasheet.ciiva.com/15165/getdatasheetpartid-102547-15165912.pdf?src-supplier=Verical; ComponentLink3URL: https://datasheet.ciiva.com/15948/20cat-db-al-cgieejppdfnamelxz-cgieejppdfnamelxz-15948790.pdf?src-supplier=Onlinecomponents.com; ComponentLink3Description: https://datasheet.ciiva.com/15948/20cat-db-al-cgieejppdfnamelxz-cgieejppdfnamelxz-15948790.pdf?src-supplier=Onlinecomponents.com; ComponentLink4URL: https://datasheet.ciiva.com/22620/1697097-22620536.pdf?src-supplier=Element14; ComponentLink4Description: https://datasheet.ciiva.com/22620/1697097-22620536.pdf?src-supplier=Element14; ComponentLink5URL: https://datasheet.ciiva.com/7910/1348889-7910316.pdf?src-supplier=Element14; ComponentLink5Description: https://datasheet.ciiva.com/7910/1348889-7910316.pdf?src-supplier=Element14; ComponentLink6URL: https://datasheet.ciiva.com/29247/447742-da-01-en-elko-470-uf-35v-105c-2000st-29247655.pdf?src-supplier=Conrad; ComponentLink6Description: https://datasheet.ciiva.com/29247/447742-da-01-en-elko-470-uf-35v-105c-2000st-29247655.pdf?src-supplier=Conrad
footprint ELXZ350ELL471MJ20S
pins: 1, 2

## FEXL0550A-150M
designator L?, comment 15uH
3.9A 15uH Molding Choke ±20% 3.7A SMD,5.5x5.3mm Power Inductors ROHS; Manufacturer: cjiang; Manufacturer Part Number: FEXL0550A-150M; Package: SMD,5.5x5.3mm; LCSC Part Number: C5378518; Item Type: Inductor; ComponentLink1Description: LCSC; ComponentLink1URL: https://www.lcsc.com/product-detail/Power-Inductors_cjiang-Changjiang-Microelectronics-Tech-FEXL0550A-150M_C5378518.html
footprint FEXL0550A-150M1
pins: 1, 2

## FRC1206F2R00TS
designator R?, comment 2R
0.25W Thick Film Resistors 200V ±1% ±200ppm/℃ 2Ω 1206 Chip Resistor - Surface Mount ROHS; Manufacturer: FOJAN; Manufacturer Part Number: FRC1206F2R00TS; Package: 1206; LCSC Part Number: C2907381; Item Type: Resistor; ComponentLink1Description: LCSC; ComponentLink1URL: https://www.lcsc.com/product-detail/Chip-Resistor-Surface-Mount_FOJAN-FRC1206F2R00TS_C2907381.html?s_z=n_CRCW12062R00FKEA
footprint Res-1206
pins: 1, 2

## FRL1206FR430TS
designator R?, comment 0.43R
0.25W Thick Film Resistors 500V ±1% ±300ppm/℃ 0.43Ω 1206 Chip Resistor - Surface Mount ROHS; Manufacturer: FOJAN; Manufacturer Part Number: FRL1206FR430TS; Package: 1206; LCSC Part Number: C2934294; Item Type: Resistor; ComponentLink1Description: LCSC; ComponentLink1URL: https://www.lcsc.com/product-detail/Chip-Resistor-Surface-Mount_FOJAN-FRL1206FR430TS_C2934294.html?s_z=n_%2520ERJ-8RQFR43V
footprint Res-1206
pins: 1, 2

## GCM188R71H104KA57J
designator C?, comment 0.1uF
CAP CER 0.1UF 50V X7R 0603; Manufacturer: Murata; Manufacturer Part Number: GCM188R71H104KA57J; Item Type: Capacitors; Material: 4241ConductorMaterial; Value: 100nF; Tolerance: 10%; Supplier: Mouser; LCSC Part Number: 81-GCM188R71H104KA7J; RoHS: Yes; Stock: 469972; Pricing: 1=0.19, 10=0.121, 50=0.121, 100=0.064, 1000=0.051, 10000=0.035 (USD); Mounting Technology: Surface Mount; Case/Package: 0603; Case Code (Metric): 1608; Case Code (Imperial): 0603; Min Operating Temperature: -55°C; Max Operating Temperature: 125°C; Dielectric: X7R; Package Quantity: 1; Packaging: Tape and Reel; Voltage Rating: 50V; Voltage Rating (DC): 50V; Termination: SMD/SMT; Series: GCM; Construction: Flat; Length: 1.6mm; Width: 0.031inch; Height: 0.8mm; Thickness: 0.035inch; Depth: 0.8mm; Ratings: AEC-Q200; Radiation Hardening: No; RoHS Compliant: Yes; Lead Free: 5697LeadFree; ComponentLink1URL: https://datasheet.ciiva.com/29540/product-29540815.pdf?src-supplier=Digikey; ComponentLink1Description: https://datasheet.ciiva.com/29540/product-29540815.pdf?src-supplier=Digikey; ComponentLink2URL: https://datasheet.ciiva.com/11618/product-11618920.pdf?src-supplier=Avnet; ComponentLink2Description: https://datasheet.ciiva.com/11618/product-11618920.pdf?src-supplier=Avnet
footprint Cap-0603
pins: 1, 2

## GJM0335C1E3R9WB01D
designator C?, comment 3.9pF
3.9pF 25V C0G/NP0 0201; Manufacturer: Murata; Manufacturer Part Number: GJM0335C1E3R9WB01D; LCSC Part Number: C1852416
footprint CAP-0201
pins: 1, 2

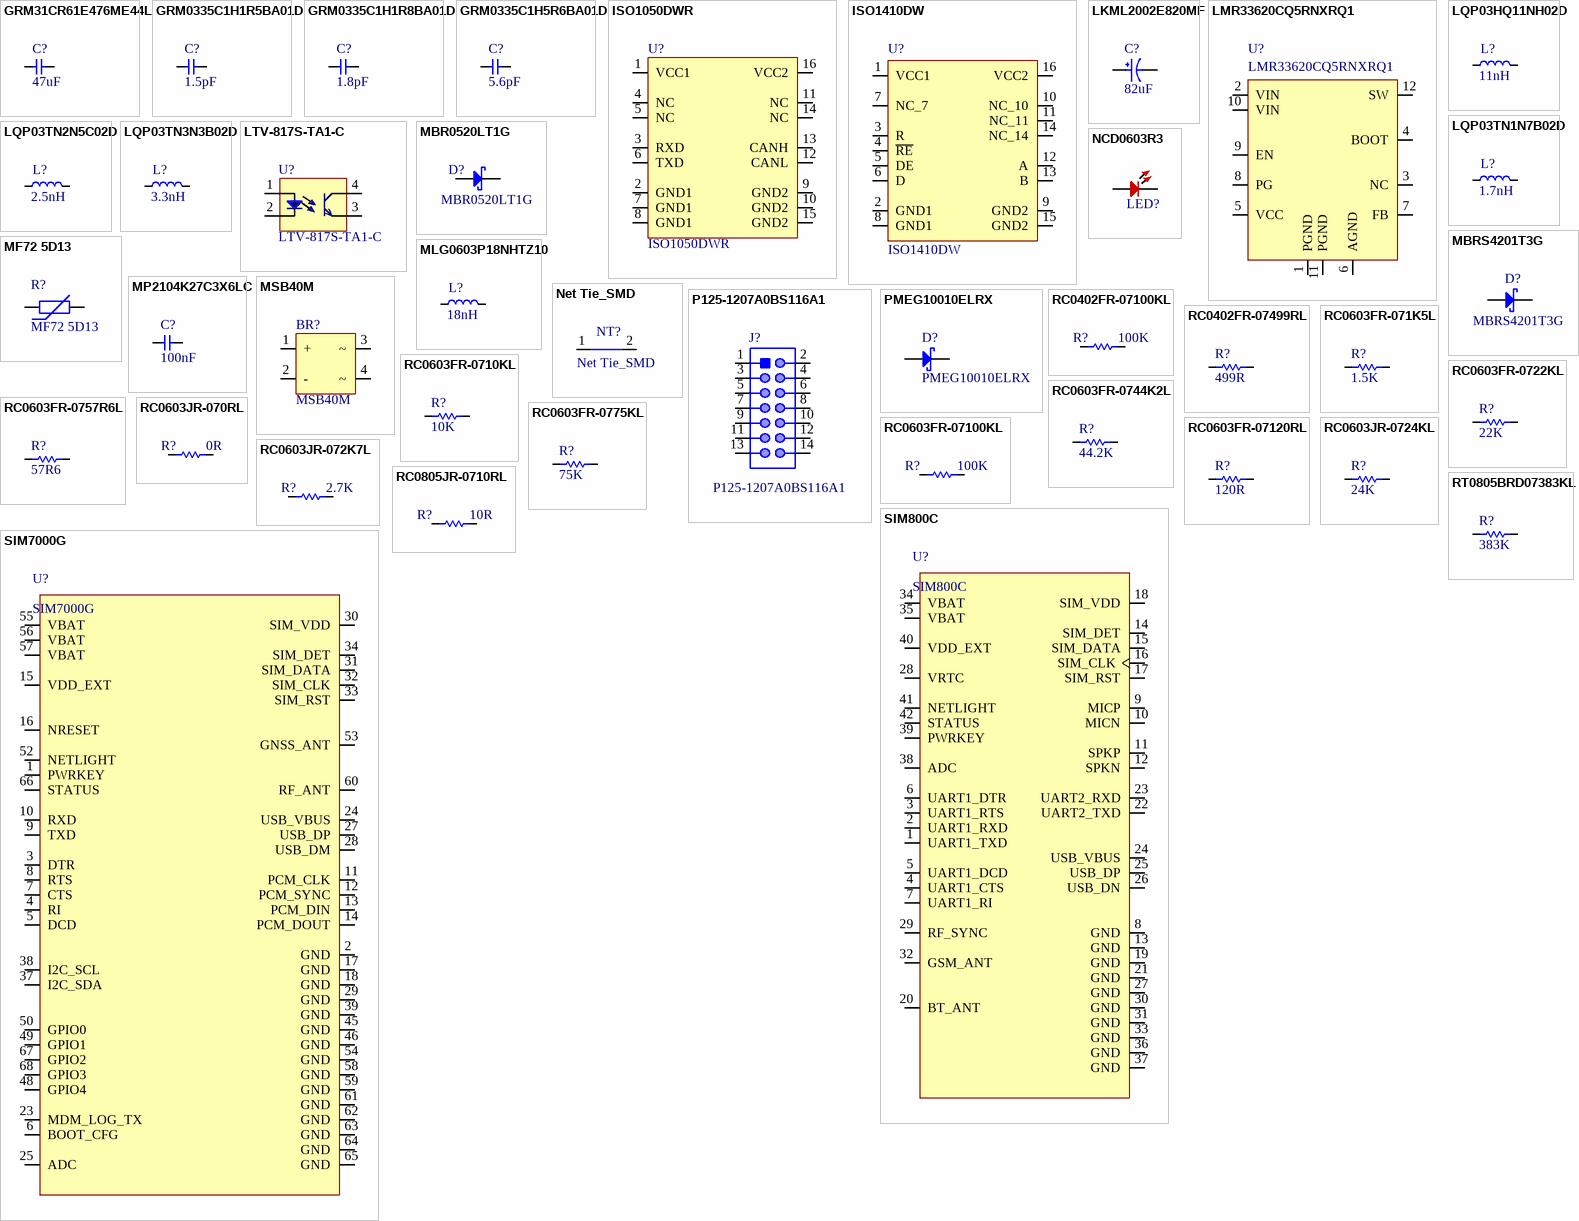
[diagram p1: symbols GRM31CR61E476ME44L to SIM7000G]

## GRM31CR61E476ME44L
designator C?, comment 47uF
CAP CER 47UF 25V X5R 1206; Manufacturer: Murata; Manufacturer Part Number: GRM31CR61E476ME44L; Tolerance: 20%; Item Type: Capacitor; Supplier 1: Digi-Key; RoHS: Yes; Category: Ceramic Capacitors; Capacitance: 47uF; Voltage Rating (DC): 25V; Dielectric: X5R; Length: 3.2mm; Width: 1.6mm; Thickness: 1.6mm; ComponentLink1URL: https://search.murata.co.jp/Ceramy/image/img/A01X/partnumbering_e_01.pdf?src-supplier=Digi-Key; ComponentLink1Description: https://search.murata.co.jp/Ceramy/image/img/A01X/partnumbering_e_01.pdf?src-supplier=Digi-Key; Supplier Part Number 1: 490-16268-2-ND; LCSC Part Number: C403725
footprint Cap-1206 (SMD 1206)
pins: 1, 2

## GRM0335C1H1R5BA01D
designator C?, comment 1.5pF
1.5pF 50V Ceramic Capacitor C0G 0201; Manufacturer: Murata; Manufacturer Part Number: GRM0335C1H1R5BA01D; LCSC Part Number: C161414
footprint CAP-0201
pins: 1, 2

## GRM0335C1H1R8BA01D
designator C?, comment 1.8pF
1.8pF 50V Ceramic Capacitor C0G 0201; Manufacturer: Murata; Manufacturer Part Number: GRM0335C1H1R8BA01D; LCSC Part Number: C161415
footprint CAP-0201
pins: 1, 2

## GRM0335C1H5R6BA01D
designator C?, comment 5.6pF
5.6pF 50V C0G/NP0 0201; Manufacturer: Murata; Manufacturer Part Number: GRM0335C1H5R6BA01D; LCSC Part Number: C161431
footprint CAP-0201
pins: 1, 2

## ISO1050DWR
designator U?
1/1 Transceiver Half CAN 16-SOIC; Manufacturer: Texas Instruments; Data Rate: 1Mbps; Max Supply Voltage: 5.5V; Min Supply Voltage: 3V; Propagation Delay: 74ns; Number of Channels: 2; Number of Transceivers: 1; Simplex/Duplex: Half Duplex; Receiver Hysteresis: 150mV; Working Voltage: 1.2V; Supply Current: 2mA; Supplier: Mouser; Supplier Part Number: 595-ISO1050DWR; Manufacturer Part Number: ISO1050DWR; RoHS: Yes; Category: Interface ICs; Stock: 4624; Pricing: 1=4.3, 10=3.76, 50=3.76, 100=3.17, 1000=2.37, 10000=2.26 (USD); Case/Package: SOIC; Pins: 16; Min Operating Temperature: -55°C; Max Operating Temperature: 105°C; Packaging: Tape and Reel; Package Quantity: 2000; Number of Drivers: 1; Series: -; Radiation Hardening: No; Lead Free: Lead Free; RoHS Compliant: Yes; ComponentLink1URL: https://datasheet.ciiva.com/4782/slls983e-121851-4782209.pdf?src-supplier=Mouser; ComponentLink1Description: https://datasheet.ciiva.com/4782/slls983e-121851-4782209.pdf?src-supplier=Mouser; ComponentLink2URL: https://datasheet.ciiva.com/26913/getdatasheetpartid-573378-26913111.pdf?src-supplier=Verical; ComponentLink2Description: https://datasheet.ciiva.com/26913/getdatasheetpartid-573378-26913111.pdf?src-supplier=Verical
footprint SOIC-16-300mil
pins: 1 VCC1, 2 GND1, 3 RXD, 4 NC, 5 NC, 6 TXD, 7 GND1, 8 GND1, 9 GND2, 10 GND2, 11 NC, 12 CANL, 13 CANH, 14 NC, 15 GND2, 16 VCC2

## ISO1410DW
designator U?
EMC protected, 500-Kbps, half-duplex, 5-kVrms isolated RS-485 & RS-422 transceiver; MF: Texas Instruments; SnapEDA_Link: https://www.snapeda.com/parts/ISO1410DW/Texas+Instruments/view-part/?ref=snap; Package: SOIC-16 Texas Instruments; Value: *; MP: ISO1410DW; Check_prices: https://www.snapeda.com/parts/ISO1410DW/Texas+Instruments/view-part/?ref=eda
footprint SOIC127P1030X265-16N
pins: 1 VCC1, 2 GND1, 3 R, 4 ~{RE}, 5 DE, 6 D, 7 NC_7, 8 GND1, 9 GND2, 10 NC_10, 11 NC_11, 12 A, 13 B, 14 NC_14, 15 GND2, 16 VCC2

## LKML2002E820MF
designator C?, comment 82uF
82uF 250V 1.35Ω@100kHz ±20% 1.27A@100kHz Plugin,D12.5xL20mm Aluminum Electrolytic Capacitors - Leaded ROHS; Manufacturer: Ymin; Manufacturer Part Number: LKML2002E820MF; Package: Plugin,D12.5xL20mm; LCSC Part Number: C443261; Item Type: Capacitor; ComponentLink1Description: LCSC; ComponentLink1URL: https://www.lcsc.com/product-detail/Aluminum-Electrolytic-Capacitors-Leaded_Ymin-LKML2002E820MF_C443261.html
footprint LKML2002E820MF
pins: 1, 2

## LMR33620CQ5RNXRQ1
designator U?
IC REG BUCK 5V 2A 12VQFN; Manufacturer: Texas Instruments; Supplier: Digikey; Supplier Part Number: 296-53213-1-ND; Manufacturer Part Number: LMR33620CQ5RNXRQ1; RoHS: Yes; Category: Voltage Regulators - Switching; Stock: 5909; Pricing: 1=2.41, 10=2.163, 25=2.04, 100=1.7383, 250=1.63216, 500=1.42814, 1000=1.18332 (USD); ComponentLink1URL: http://www.ti.com/general/docs/suppproductinfo.tsp?distId=10&amp;gotoUrl=http%3A%2F%2Fwww.ti.com%2Flit%2Fgpn%2Flmr33620-q1&src-supplier=Digikey; ComponentLink1Description: http://www.ti.com/general/docs/suppproductinfo.tsp?distId=10&amp;gotoUrl=http%3A%2F%2Fwww.ti.com%2Flit%2Fgpn%2Flmr33620-q1&src-supplier=Digikey; Item Type: IC
footprint 12-VQFN-HR (3x2)
pins: 1 PGND, 2 VIN, 3 NC, 4 BOOT, 5 VCC, 6 AGND, 7 FB, 8 PG, 9 EN, 10 VIN, 11 PGND, 12 SW

## LQP03HQ11NH02D
designator L?, comment 11nH
FIXED IND 11nH 300mA 500mΩ 0201; Manufacturer: Murata; Manufacturer Part Number: LQP03HQ11NH02D; LCSC Part Number: C2041496
footprint IND-0201
pins: 1, 2

## LQP03TN1N7B02D
designator L?, comment 1.7nH
600mA 1.7nH 150mΩ Thick Film Inductor 0201 Fixed Inductors RoHS; Manufacturer: muRata; Manufacturer Part Number: LQP03TN1N7B02D; LCSC Part Number: C157592
footprint IND-0201
pins: 1, 2

## LQP03TN2N5C02D
designator L?, comment 2.5nH
FIXED IND 2.5nH 500mA 200mΩ 0201; Manufacturer: muRata; Manufacturer Part Number: LQP03TN2N5C02D; LCSC Part Number: C206435
footprint IND-0201
pins: 1, 2

## LQP03TN3N3B02D
designator L?, comment 3.3nH
3.3nH 250mΩ Thick Film Inductor 0201 Fixed Inductors RoHS; Manufacturer: Murata; Manufacturer Part Number: LQP03TN3N3B02D; LCSC Part Number: C98045
footprint IND-0201
pins: 1, 2

## LTV-817S-TA1-C
designator U?
OPTOISOLATOR 5KV 1CH TRANS 4-SMD; Manufacturer: Vishay Lite-On; Item Type: Optocouplers; Number of Channels: 1; Reverse Breakdown Voltage: 6V; Forward Voltage: 1.4V; Forward Current: 50mA; Rise Time: 18000ns; Max Power Dissipation: 200mW; Collector Emitter Voltage (VCEO): 35V; Collector Emitter Saturation Voltage: 200mV; Power Dissipation: 70mW; Current Transfer Ratio: 400%; Input Type: DC; Supplier: Digikey; LCSC Part Number: C109227; Manufacturer Part Number: LTV-817S-TA1-C; RoHS: Yes; Stock: 4949; Pricing: 1=0.5, 10=0.291, 100=0.1856, 500=0.14438 (USD); Mounting Technology: Surface Mount; Case/Package: SMD/SMT; Pins: 4; Min Operating Temperature: -30°C; Max Operating Temperature: 110°C; Packaging: Tape and Reel; Package Quantity: 1000; Max Collector Current: 50mA; Max Output Voltage: 35V; Output Current per Channel: 50mA; Number of Elements: 1; Fall Time: 18000ns; Isolation Voltage: 5kV; Max Input Current: 50mA; Series: -; Collector-emitter Voltage-Max: 200mV; Isolation Voltage-Max: 5kV; Radiation Hardening: No; Lead Free: Lead Free; ComponentLink1URL: https://datasheet.ciiva.com/12240/ltv-817-827-847-12240648.pdf?src-supplier=Mouser; ComponentLink1Description: https://datasheet.ciiva.com/12240/ltv-817-827-847-12240648.pdf?src-supplier=Mouser; ComponentLink2URL: https://datasheet.ciiva.com/2958/s-110-ltv-817m-s-s-ta-s-ta1-s-tpseries20130925-2958797.pdf?src-supplier=Digikey; ComponentLink2Description: https://datasheet.ciiva.com/2958/s-110-ltv-817m-s-s-ta-s-ta1-s-tpseries20130925-2958797.pdf?src-supplier=Digikey
footprint LTV-817S-TA1-C
pins: 1 An, 2 Ca, 3 E, 4 C

## MBR0520LT1G
designator D?
DIODE SCHOTTKY 20V 500MA SOD123; Manufacturer: ON Semiconductor; Forward Voltage: 385mV; Polarity: Standard; Max Surge Current: 5.5A; Max Reverse Current: 250uA; Element Configuration: Single; Supplier: Digikey; Supplier Part Number: MBR0520LT1GOSDKR-ND; Manufacturer Part Number: MBR0520LT1G; RoHS: Yes; Category: Schottky Diodes; Pricing: 1=0.36, 10=0.255, 100=0.129, 500=0.1052, 1000=0.07805 (USD); Case/Package: SOD-123-2; Pins: 2; Min Operating Temperature: -65°C; Max Operating Temperature: 125°C; Voltage Rating (DC): 20V; Current Rating: 500mA; Output Current: 500mA; Packaging: Tape and Reel; Package Quantity: 1; Forward Current: 500mA; Average Rectified Current: 500mA; Max Reverse Leakage Current: 250uA; Max Repetitive Reverse Voltage (Vrrm): 20V; Peak Non-Repetitive Surge Current: 5.5A; Max Forward Surge Current (Ifsm): 5.5A; Termination: SMD/SMT; Max Reverse Voltage (DC): 20V; Series: -; Length: 2.69mm; Width: 1.6mm; Height: 1.12mm; Radiation Hardening: No; Lead Free: Lead Free; Reach SVHC Compliant: No; RoHS Compliant: Yes; ComponentLink1URL: https://datasheet.ciiva.com/915/mbr0520lt1-d-915488.pdf?src-supplier=Avnet; ComponentLink1Description: https://datasheet.ciiva.com/915/mbr0520lt1-d-915488.pdf?src-supplier=Avnet; ComponentLink2URL: https://datasheet.ciiva.com/915/mbr0520lt1-d-915488.pdf?src-supplier=Digikey; ComponentLink2Description: https://datasheet.ciiva.com/915/mbr0520lt1-d-915488.pdf?src-supplier=Digikey; ComponentLink3URL: https://datasheet.ciiva.com/14168/sy600925-e-14168052.pdf?src-supplier=Distrelec; ComponentLink3Description: https://datasheet.ciiva.com/14168/sy600925-e-14168052.pdf?src-supplier=Distrelec; ComponentLink4URL: https://datasheet.ciiva.com/5762/mbr0520lt1-d-5762891.pdf?src-supplier=Farnell; ComponentLink4Description: https://datasheet.ciiva.com/5762/mbr0520lt1-d-5762891.pdf?src-supplier=Farnell; ComponentLink5URL: https://datasheet.ciiva.com/7962/mbr0520lt1-d-7962698.pdf?src-supplier=Element14; ComponentLink5Description: https://datasheet.ciiva.com/7962/mbr0520lt1-d-7962698.pdf?src-supplier=Element14; ComponentLink6URL: https://datasheet.ciiva.com/5762/mbr0520lt1-d-5762889.pdf?src-supplier=Farnell; ComponentLink6Description: https://datasheet.ciiva.com/5762/mbr0520lt1-d-5762889.pdf?src-supplier=Farnell; ComponentLink7URL: https://datasheet.ciiva.com/14559/70099495-14559898.pdf?src-supplier=Allied+Electronics; ComponentLink7Description: https://datasheet.ciiva.com/14559/70099495-14559898.pdf?src-supplier=Allied+Electronics; ComponentLink8URL: https://datasheet.ciiva.com/4714/mbr0520lt1-d-94265-4714156.pdf?src-supplier=Mouser; ComponentLink8Description: https://datasheet.ciiva.com/4714/mbr0520lt1-d-94265-4714156.pdf?src-supplier=Mouser; ComponentLink9URL: https://datasheet.ciiva.com/7961/mbr0520lt1-d-7961765.pdf?src-supplier=Element14; ComponentLink9Description: https://datasheet.ciiva.com/7961/mbr0520lt1-d-7961765.pdf?src-supplier=Element14; ComponentLink10URL: https://datasheet.ciiva.com/7962/mbr0520lt1-d-7962699.pdf?src-supplier=Element14; ComponentLink10Description: https://datasheet.ciiva.com/7962/mbr0520lt1-d-7962699.pdf?src-supplier=Element14; ComponentLink11URL: https://datasheet.ciiva.com/16395/mbr0520lt1-d-16395977.pdf?src-supplier=Future+Electronics; ComponentLink11Description: https://datasheet.ciiva.com/16395/mbr0520lt1-d-16395977.pdf?src-supplier=Future+Electronics; ComponentLink12URL: https://datasheet.ciiva.com/915/mbr0520lt1-d-915489.pdf?src-supplier=Digikey; ComponentLink12Description: https://datasheet.ciiva.com/915/mbr0520lt1-d-915489.pdf?src-supplier=Digikey; ComponentLink13URL: https://datasheet.ciiva.com/915/mbr0520lt1-d-915490.pdf?src-supplier=Digikey; ComponentLink13Description: https://datasheet.ciiva.com/915/mbr0520lt1-d-915490.pdf?src-supplier=Digikey; LCSC Part Number: C23848; Item Type: Diode
footprint SOD-123
pins: 1 A, 2 K

## MBRS4201T3G
designator D?
200V Independent Type 4A 860mV@4A SMC(DO-214AB) Schottky Diodes ROHS; Manufacturer: FUXINSEMI; Item Type: Diode; Manufacturer Part Number: MBRS4201T3G; Package: SMC(DO-214AB); LCSC Part Number: C5563749; ComponentLink1Description: LCSC; ComponentLink1URL: https://www.lcsc.com/product-detail/Schottky-Diodes_FUXINSEMI-MBRS4201T3G_C5563749.html?s_z=n_%2520MBRS4201T3G
footprint SMC
pins: 1 K, 2 A

## MF72 5D13
designator R?
5Ω 5A 4W 2800K ±10% Plugin,P=7.5mm NTC Thermistors ROHS; Manufacturer: Nanjing Shiheng Elec; Manufacturer Part Number: MF72 5D13; Package: Plugin,P=7.5mm; LCSC Part Number: C72683; Item Type: Thermistor; ComponentLink1Description: LCSC; ComponentLink1URL: https://www.lcsc.com/product-detail/NTC-Thermistors_Nanjing-Shiheng-Elec-MF72-5D13_C72683.html?s_z=n_B57236
footprint MF72 5D13
pins: 1, 2

## MLG0603P18NHTZ10
designator L?, comment 18nH
200mA 18nH ±3% 1.04Ω 0201 Fixed Inductors RoHS; Manufacturer: TDK; Manufacturer Part Number: MLG0603P18NHTZ10; LCSC Part Number: C275158
footprint IND-0201
pins: 1, 2

## MP2104K27C3X6LC
designator C?, comment 100nF
100nF ±10% X2 275V Plugin,P=10mm Safety Capacitors ROHS; Manufacturer: SRD(Shenzhen Sincerity Tech); Manufacturer Part Number: MP2104K27C3X6LC; Package: Plugin,P=10mm; LCSC Part Number: C105759; Item Type: Capacitor; ComponentLink1Description: LCSC; ComponentLink1URL: https://www.lcsc.com/product-detail/Safety-Capacitors_SRD-Shenzhen-Sincerity-Tech-MP2104K27C3X6LC_C105759.html
footprint MP2104K27C3X6LC
pins: 1, 2

## MSB40M
designator BR?
1.1V@4A 4A 1000V UMSB Bridge Rectifiers ROHS; Manufacturer: GOODWORK; Item Type: Bridge Rectifire; Manufacturer Part Number: MSB40M; Package: UMSB; LCSC Part Number: C2985033; ComponentLink1Description: LCSC; ComponentLink1URL: https://www.lcsc.com/product-detail/Bridge-Rectifiers_GOODWORK-MSB40M_C2985033.html
footprint UMSB
pins: 1 +, 2 -, 3 ~, 4 ~

## NCD0603R3
designator LED?, comment RED  (value not drawn)
RED LED 0603 Light Emitting Diodes; Manufacturer: Foshan NationStar Optoelectronics; Manufacturer Part Number: NCD0603R3; Package: 0603; Item Type: LED; LCSC Part Number: C3151730; ComponentLink1Description: LCSC; ComponentLink1URL: https://www.lcsc.com/product-detail/Light-Emitting-Diodes-LED_Foshan-NationStar-Optoelectronics-NCD0603R3_C3151730.html
footprint LED-0603
pins: 1, 2

## Net Tie_SMD
designator NT?  (net tie, no BOM)
Net Tie SMD; Manufacturer Part Number: Net Tie; Item Type: Net Tie Pad
footprint Net Tie Pad
pins: 1, 2

## P125-1207A0BS116A1
designator J?
Through Hole,P=2.54mm Headers, Male Pins RoHS; Manufacturer: Yxcon; Manufacturer Part Number: P125-1207A0BS116A1; LCSC Part Number: C52148819
footprint P125-1207A0BR138A1
pins: 1, 2, 3, 4, 5, 6, 7, 8, 9, 10, 11, 12, 13, 14

## PMEG10010ELRX
designator D?
DIODE SCHOTTKY 100V 1A SOD123W; Manufacturer: Nexperia; Item Type: Schottky Diodes; Reverse Recovery Time: 3.7ns; Value: 28pF; Max Forward Surge Current (Ifsm): 50A; Max Reverse Current: 150nA; Supplier: Future Electronics; LCSC Part Number: C179426; Manufacturer Part Number: PMEG10010ELRX; RoHS: Yes; Stock: 282000; Pricing: 3000=0.0482, 9000=0.047, 15000=0.0464, 30000=0.0457, 60000=0.0446 (USD); Mounting Technology: 8Mount; Average Rectified Current: 1A; Max Reverse Voltage (DC): 100V; Forward Current: 1A; Reverse Voltage: 100V; Height: 1.1mm; RoHS Compliant: Yes; Lead Free: 5697LeadFree; Reach SVHC Compliant: 4186SVHC; ComponentLink1URL: http://www.farnell.com/datasheets/2170364.pdf?src-supplier=Farnell; ComponentLink1Description: http://www.farnell.com/datasheets/2170364.pdf?src-supplier=Farnell; ComponentLink2URL: https://assets.nexperia.com/documents/data-sheet/PMEG10010ELR.pdf?src-supplier=Digikey; ComponentLink2Description: https://assets.nexperia.com/documents/data-sheet/PMEG10010ELR.pdf?src-supplier=Digikey; ComponentLink3URL: https://datasheet.octopart.com/PMEG10010ELRX-Nexperia-datasheet-67796196.pdf?src-supplier=Future+Electronics; ComponentLink3Description: https://datasheet.octopart.com/PMEG10010ELRX-Nexperia-datasheet-67796196.pdf?src-supplier=Future+Electronics; ComponentLink4URL: http://www.farnell.com/datasheets/2170364.pdf?src-supplier=Newark; ComponentLink4Description: http://www.farnell.com/datasheets/2170364.pdf?src-supplier=Newark
footprint SOD-123W (DIODE SCHOTTKY 30V 1A SOD123W)
pins: 1 A, 2 K